# EAGLE library part TPS60502 (library leds)
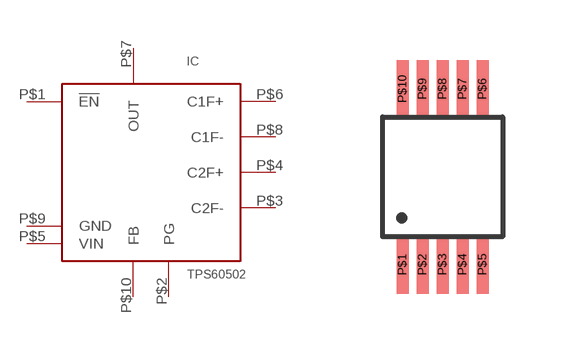
[diagram p2: symbol with the pads of S-PDSO-G10; footprint S-PDSO-G10]

Designator prefix IC

## TPS60502-DGS  [S-PDSO-G10]
P$1  !EN!
P$2  PG  out
P$3  C2F-
P$4  C2F+
P$5  VIN  pwr
P$6  C1F+
P$7  OUT
P$8  C1F-
P$9  GND  pwr
P$10  FB

## Footprint S-PDSO-G10 (pad centres in mm)
smd 0.3 x 1.45: P$1 -1,-2.2; P$2 -0.5,-2.2; P$3 0,-2.2; P$4 0.5,-2.2; P$5 1,-2.2; P$6 1,2.2; P$7 0.5,2.2; P$8 0,2.2; P$9 -0.5,2.2; P$10 -1,2.2